# EAGLE library part ARDUINO-ICS_TS3001X (library MKRMotorCarrierV3.0)
TS30011/12/13 Buck Switching Regulator IC Positive Fixed/adjustable 5V 1 Output 1A/2A/3A 16-VFQFN Exposed Pad
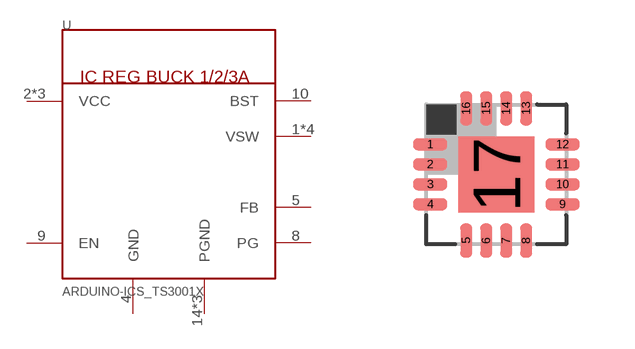
[diagram p0: symbol with the pads of ARDUINO-ICS_QFN16; footprint ARDUINO-ICS_QFN16]

Designator prefix U

## ARDUINO-ICS_TS3001XTS30012 (DATASHEET: http://www.semtech.com/images/datasheet/ts30011_12_13.pdf; DISTRIBUTOR: Digikey; DISTRIBUTOR-LINK: https://www.digikey.se/products/en?keywords=S30012-M050QFNRCT-ND; DISTRIBUTOR-PN: TS30012-M050QFNRCT-ND; MANUFACTURER: Semtech Corp.; MANUFACTURER-PN: TS30012-M050QFNR; VALUE: TS30012)  [ARDUINO-ICS_QFN16]
1  VSW
2  VCC
3  VCC
4  GND
5  FB
8  PG
9  EN
10  BST
11  VCC
12  VSW
13  VSW
14  PGND
15  PGND
16  VSW
17  PGND

## ARDUINO-ICS_TS3001XTS30013 (DATASHEET: http://www.semtech.com/images/datasheet/ts30011_12_13.pdf; DISTRIBUTOR: Digikey; DISTRIBUTOR-LINK: https://www.digikey.se/products/en?keywords=TS30013-M050QFNRCT-ND; DISTRIBUTOR-PN: TS30013-M050QFNRCT-ND; MANUFACTURER: Semtech Corporation; MANUFACTURER-PN: TS30013-M050QFNR; VALUE: TS30013)  [ARDUINO-ICS_QFN16]
Pads as for ARDUINO-ICS_QFN16

## Footprint ARDUINO-ICS_QFN16 (pad centres in mm)
RTE (S-PQFP-N16) 3x3 mm Source: www.ti.com .. tpa6132a2 direct path stereo $.65.pdf
smd 0.85 x 0.3: 1 -1.655,0.75; 2 -1.655,0.25; 3 -1.655,-0.25; 4 -1.655,-0.75; 9 1.655,-0.75; 10 1.655,-0.25; 11 1.655,0.25; 12 1.655,0.75
smd 0.3 x 0.85: 5 -0.75,-1.655; 6 -0.25,-1.655; 7 0.25,-1.655; 8 0.75,-1.655; 13 0.75,1.655; 14 0.25,1.655; 15 -0.25,1.655; 16 -0.75,1.655
smd 1.905 x 1.905: 17 0,0